# Altium footprint library board.PcbLib: 15 footprints
Each footprint in its own frame and in the unit in brackets; x right, y up, seen from the top. Pads: shape width x height; smd on the part's side, far side on the other; paste and mask are expansions set on the pad; w line width, h text height; cw(c..) or ccw(c..) is an arc to the next point about the centre after c.
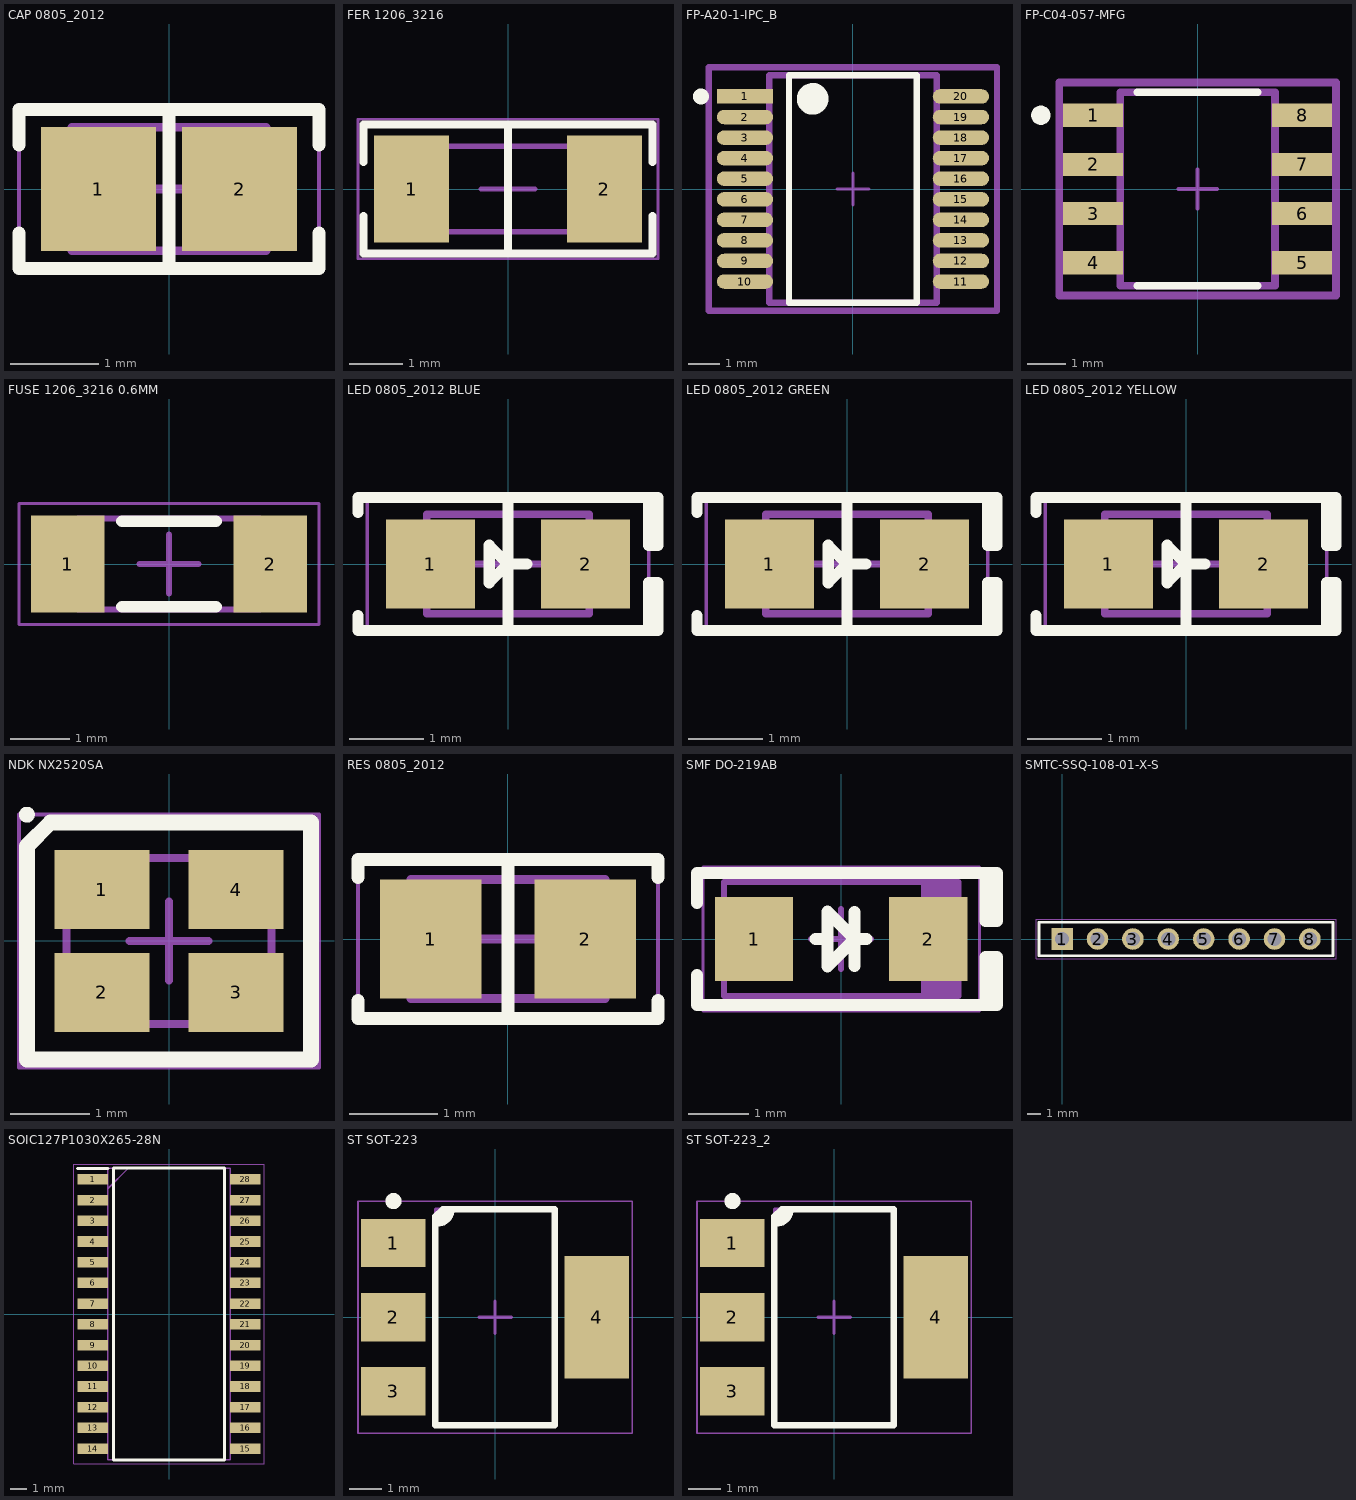
[diagram p0: the footprints below, top view; thin cyan lines are the x and y axes]

## CAP 0805_2012 [mm] "Chip Capacitor, 2-Leads, Body 2.00x1.20mm, IPC Medium Density"
height 1.15
pads (2):
  rect 1.3x1.4 smd: 1(-0.8,0) 2(0.8,0)
Top Overlay:
  lines w0.15: -1.7,-0.5 -1.7,-0.9 1.7,-0.9 1.7,-0.5 ; -1.7,0.5 -1.7,0.9 1.7,0.9 1.7,0.5 ; 0,-0.9 0,0.9
Mechanical 13:
  lines w0.1: -1.1,-0.7 1.1,-0.7 1.1,0.7 -1.1,0.7 -1.1,-0.7
Mechanical 15:
  lines w0.05: -1.7,-0.95 1.7,-0.95 1.7,0.95 -1.7,0.95 -1.7,-0.95
  lines w0.1: -0.5,0 0.5,0 ; 0,-0.5 0,0.5
3D body "0805 cap.STEP": height 1.26, standoff -0.02, extent -1,-0.637 1,0.637

## FER 1206_3216 [mm] "Chip Ferrite, 2-Leads, Body 3.20x1.60mm, IPC Medium Density"
height 1.1
pads (2):
  rect 1.4x2 smd: 1(-1.8,0) 2(1.8,0)
Top Overlay:
  lines w0.15: -2.7,-0.5 -2.7,-1.2 2.7,-1.2 2.7,-0.5 ; -2.7,0.5 -2.7,1.2 2.7,1.2 2.7,0.5 ; 0,-1.128 0,1.2
Mechanical 13:
  lines w0.1: -1.65,-0.8 -1.65,0.8 1.65,0.8 1.65,-0.8 -1.65,-0.8
Mechanical 15:
  lines w0.05: -2.8,-1.3 -2.8,1.3 2.8,1.3 2.8,-1.3 -2.8,-1.3
  lines w0.1: -0.5,0 0.5,0 ; 0,-0.5 0,0.5
3D body "FER 1206.step": height 1.3, standoff 0, extent -1.65,-0.85 1.65,0.85

## FP-A20-1-IPC_B [mm]
pads (20):
  rect 1.782x0.458 smd paste+0 mask+0: 1(-3.414,2.925)
  rrect100% 1.782x0.458 smd paste+0 mask+0: 2(-3.414,2.275) 3(-3.414,1.625) 4(-3.414,0.975) 5(-3.414,0.325) 6(-3.414,-0.325) 7(-3.414,-0.975) 8(-3.414,-1.625) 9(-3.414,-2.275) 10(-3.414,-2.925) 11(3.414,-2.925) 12(3.414,-2.275) 13(3.414,-1.625) 14(3.414,-0.975) 15(3.414,-0.325) 16(3.414,0.325) 17(3.414,0.975) 18(3.414,1.625) 19(3.414,2.275) 20(3.414,2.925)
Top Overlay:
  circle w0.25: c-4.805,2.925 r0.125
  circle w0.5: c-1.273,2.85 r0.25
  lines w0.2: -2.023,-3.6 -2.023,3.6 2.023,3.6 2.023,-3.6 -2.023,-3.6
Top 3D Body:
  lines w0.2: -2.645,-3.6 -2.645,3.6 2.645,3.6 2.645,-3.6 -2.645,-3.6
Top Courtyard:
  lines w0.2: -4.555,-3.85 -4.555,3.85 4.555,3.85 4.555,-3.85 -4.555,-3.85
Top Assembly:
  lines w0.2: -4.555,-3.85 -4.555,3.85 4.555,3.85 4.555,-3.85 -4.555,-3.85
  text ".Designator" at 0,0.189 h1
Top Component Center:
  lines w0.1: -0.5,0 0.5,0 ; 0,-0.5 0,0.5
3D body "IC_Maxim_Integrated_MAX31865AAP+_eec.STEP": height 0.25, standoff 0, extent -4.555,-3.85 4.555,3.85

## FP-C04-057-MFG [mm]
pads (8):
  rect 1.55x0.6 smd paste+0 mask+0: 1(-2.7,1.905) 2(-2.7,0.635) 3(-2.7,-0.635) 4(-2.7,-1.905) 5(2.7,-1.905) 6(2.7,-0.635) 7(2.7,0.635) 8(2.7,1.905)
Top Overlay:
  circle w0.25: c-4.05,1.905 r0.125
  lines w0.2: -1.55,-2.5 1.55,-2.5 ; -1.55,2.5 1.55,2.5
Top 3D Body:
  lines w0.2: -2,-2.5 -2,2.5 2,2.5 2,-2.5 -2,-2.5
Top Courtyard:
  lines w0.2: -3.575,-2.75 -3.575,2.75 3.575,2.75 3.575,-2.75 -3.575,-2.75
Top Assembly:
  lines w0.2: -3.575,-2.75 -3.575,2.75 3.575,2.75 3.575,-2.75 -3.575,-2.75
  text ".Designator" at 0,0.189 h1
Top Component Center:
  lines w0.1: -0.5,0 0.5,0 ; 0,-0.5 0,0.5
3D body "IC_Microchip_ATA6560-GAQW-N_eec.STEP": height 0.25, standoff 0, extent -3.575,-2.75 3.575,2.75

## FUSE 1206_3216 0.6MM [mm] "Chip Fuse 1.5A AC 63V DC, 2-Leads, Body 3.10x1.55mm, IPC Medium Densitym"
height 0.7
pads (2):
  rect 1.25x1.65 smd: 1(-1.725,0) 2(1.725,0)
Top Overlay:
  lines w0.2: -0.8,-0.725 0.8,-0.725 ; -0.8,0.725 0.8,0.725
Mechanical 13:
  lines w0.1: -1.55,-0.775 1.55,-0.775 1.55,0.775 -1.55,0.775 -1.55,-0.775
Mechanical 15:
  lines w0.05: -2.55,-1.025 2.55,-1.025 2.55,1.025 -2.55,1.025 -2.55,-1.025
  lines w0.1: -0.5,0 0.5,0 ; 0,-0.5 0,0.5
3D body "FUSE 1206_3216 0.6MM.step": height 0.76, standoff 0, extent -1.55,-0.775 1.55,0.775

## LED 0805_2012 BLUE [mm] "Chip Diode, 2-Leads, Body 2.00x1.25mm, IPC Medium Density"
height 0.7
pads (2):
  rect 1.2x1.2 smd: 1(-1.05,0) 2(1.05,0)
Top Overlay:
  lines w0.15: -2.032,-0.7 -2.032,-0.9 1.905,-0.9 ; -2.032,0.7 -2.032,0.9 1.905,0.9 ; 0,-0.9 0,0.9 ; 0.254,0 0,0 ; 0,0 -0.254,0.254 -0.254,-0.254 0,0 ; 1.905,-0.9 2.032,-0.9 2.032,-0.254 1.905,-0.254 1.905,-0.9 ; 1.905,0.9 2.032,0.9 2.032,0.254 1.905,0.254 1.905,0.9
Mechanical 13:
  lines w0.1: -1.1,-0.675 -1.1,0.675 1.1,0.675 1.1,-0.675 -1.1,-0.675
Mechanical 15:
  lines w0.05: -1.905,-0.95 -1.905,0.95 1.905,0.95 1.905,-0.95 -1.905,-0.95
  lines w0.1: -0.5,0 0.5,0 ; 0,-0.5 0,0.5
3D body "LED 0805 Lens BLUE.STEP": height 0.9, standoff 0.3, extent -0.65,-0.625 0.65,0.625
3D body "LED 0805 Base BLUE.STEP": height 0.4, standoff 0, extent -1,-0.625 1,0.625

## LED 0805_2012 GREEN [mm] "Chip Diode, 2-Leads, Body 2.00x1.25mm, IPC Medium Density"
height 0.7
pads (2):
  rect 1.2x1.2 smd: 1(-1.05,0) 2(1.05,0)
Top Overlay:
  lines w0.15: -2.032,-0.7 -2.032,-0.9 1.905,-0.9 ; -2.032,0.7 -2.032,0.9 1.905,0.9 ; 0,-0.9 0,0.9 ; 0.254,0 0,0 ; 0,0 -0.254,0.254 -0.254,-0.254 0,0 ; 1.905,-0.9 1.905,-0.254 2.032,-0.254 2.032,-0.9 1.905,-0.9 ; 1.905,0.9 1.905,0.254 2.032,0.254 2.032,0.9 1.905,0.9
Mechanical 13:
  lines w0.1: -1.1,-0.675 1.1,-0.675 1.1,0.675 -1.1,0.675 -1.1,-0.675
Mechanical 15:
  lines w0.05: -1.905,-0.95 1.905,-0.95 1.905,0.95 -1.905,0.95 -1.905,-0.95
  lines w0.1: -0.5,0 0.5,0 ; 0,-0.5 0,0.5
3D body "LED 0805 Base GREEN.STEP": height 0.4, standoff 0, extent -1,-0.625 1,0.625
3D body "LED 0805 Lens GREEN.STEP": height 0.9, standoff 0.3, extent -0.65,-0.625 0.65,0.625

## LED 0805_2012 YELLOW [mm] "Chip Diode, 2-Leads, Body 2.00x1.25mm, IPC Medium Density"
height 0.7
pads (2):
  rect 1.2x1.2 smd: 1(-1.05,0) 2(1.05,0)
Top Overlay:
  lines w0.15: -2.032,-0.7 -2.032,-0.9 1.905,-0.9 ; -2.032,0.7 -2.032,0.9 1.905,0.9 ; 0,-0.9 0,0.9 ; 0.254,0 0,0 ; 0,0 -0.254,0.254 -0.254,-0.254 0,0 ; 1.905,-0.9 1.905,-0.254 2.032,-0.254 2.032,-0.9 1.905,-0.9 ; 1.905,0.9 1.905,0.254 2.032,0.254 2.032,0.9 1.905,0.9
Mechanical 13:
  lines w0.1: -1.1,-0.675 1.1,-0.675 1.1,0.675 -1.1,0.675 -1.1,-0.675
Mechanical 15:
  lines w0.05: -1.905,-0.95 1.905,-0.95 1.905,0.95 -1.905,0.95 -1.905,-0.95
  lines w0.1: -0.5,0 0.5,0 ; 0,-0.5 0,0.5
3D body "LED 0805 Base YELLOW.STEP": height 0.4, standoff 0, extent -1,-0.625 1,0.625
3D body "LED 0805 Lens YELLOW.STEP": height 0.9, standoff 0.3, extent -0.65,-0.625 0.65,0.625

## NDK NX2520SA [mm] "Crystal, 4-Leads, Body 2.00x2.50mm, Pitch 1.70mm, IPC Medium Density"
height 0.5
pads (4):
  rect 1.2x1 smd: 1(-0.85,0.65) 2(-0.85,-0.65) 3(0.85,-0.65) 4(0.85,0.65)
Top Overlay:
  circle w0.1: c-1.8,1.6 r0.05
  lines w0.2: -1.8,-1.5 1.8,-1.5 1.8,1.5 -1.5,1.5 -1.8,1.2 -1.8,-1.5
Mechanical 13:
  lines w0.1: -1.3,-1.05 -1.3,1.05 1.3,1.05 1.3,-1.05 -1.3,-1.05
Mechanical 15:
  lines w0.05: -1.9,-1.6 -1.9,1.6 1.9,1.6 1.9,-1.6 -1.9,-1.6
  lines w0.1: -0.5,0 0.5,0 ; 0,-0.5 0,0.5
3D body "NDK NX2520SA.STEP": height 0.5, standoff 0, extent -1.26,-1.01 1.26,1.01

## RES 0805_2012 [mm] "Chip Resistor, 2-Leads, Body 2.00x1.25mm, IPC Medium Density"
height 0.7
pads (2):
  rect 1.15x1.35 smd: 1(-0.875,0) 2(0.875,0)
Top Overlay:
  lines w0.15: -1.7,-0.7 -1.7,-0.9 1.7,-0.9 1.7,-0.7 ; -1.7,0.7 -1.7,0.9 1.7,0.9 1.7,0.7 ; 0,-0.9 0,0.9
Mechanical 13:
  lines w0.1: -1.1,-0.675 1.1,-0.675 1.1,0.675 -1.1,0.675 -1.1,-0.675
Mechanical 15:
  lines w0.05: -1.7,-0.95 1.7,-0.95 1.7,0.95 -1.7,0.95 -1.7,-0.95
  lines w0.1: -0.5,0 0.5,0 ; 0,-0.5 0,0.5
3D body "0805 resistor.STEP": height 0.6, standoff 0, extent -1,-0.625 1,0.625

## SMF DO-219AB [mm] "Molded Diode, 2-Leads, Body 3.90x1.90mm, IPC Medium Density"
height 1.1
pads (2):
  rect 1.3x1.4 smd: 1(-1.45,0) 2(1.45,0)
Top Overlay:
  lines w0.2: -2.4,-0.6 -2.4,-1.1 2.594,-1.1 2.594,-0.3 2.4,-0.3 2.4,-1.1 ; -2.4,0.6 -2.4,1.1 2.594,1.1 2.594,0.3 2.4,0.3 2.4,1.1 ; -0.429,-0.004 -0.229,-0.004 ; 0.225,-0.45 0.225,0.45 ; 0.425,0 0.225,0 ; 0.225,0 -0.229,0.454 -0.229,-0.454 0.225,0
Mechanical 13:
  rectangle: 1.331,-0.95 1.95,0.95
  lines w0.1: -1.95,-0.95 1.95,-0.95 1.95,0.95 -1.95,0.95 -1.95,-0.95
Mechanical 15:
  lines w0.05: -2.3,-1.2 -2.3,1.2 2.3,1.2 2.3,-1.2 -2.3,-1.2
  lines w0.1: -0.5,0 0.5,0 ; 0,-0.5 0,0.5
3D body "Vishay - SMF.step": height 1.18, standoff 0, extent -1.5,-0.898 1.5,0.898

## SMTC-SSQ-108-01-X-S [mm] "SQ Post Socket, 1x8 Pins, Vertical, 2.54mm Pitch, Female"
height 8.51
pads (8):
  rect 1.55x1.55 hole 1.02: 1(0,0)
  round 1.55 hole 1.02: 2(2.54,0) 3(5.08,0) 4(7.62,0) 5(10.16,0) 6(12.7,0) 7(15.24,0) 8(17.78,0)
Top Overlay:
  lines w0.2: -1.65,-1.205 -1.65,1.205 19.43,1.205 19.43,-1.205 -1.65,-1.205
Mechanical 13:
  lines w0.1: -1.65,-1.205 -1.65,1.205 19.43,1.205 19.43,-1.205 -1.65,-1.205
Mechanical 15:
  lines w0.05: -1.875,-1.43 19.655,-1.43 19.655,1.43 -1.875,1.43 -1.875,-1.43
3D body "SSQ-108-01-X-S.step": height 8.51, standoff -2.64, extent -1.524,-1.206 19.304,1.207

## SOIC127P1030X265-28N [mm]
pads (28):
  rect 1.85x0.65 smd: 1(-4.675,8.255) 2(-4.675,6.985) 3(-4.675,5.715) 4(-4.675,4.445) 5(-4.675,3.175) 6(-4.675,1.905) 7(-4.675,0.635) 8(-4.675,-0.635) 9(-4.675,-1.905) 10(-4.675,-3.175) 11(-4.675,-4.445) 12(-4.675,-5.715) 13(-4.675,-6.985) 14(-4.675,-8.255) 15(4.675,-8.255) 16(4.675,-6.985) 17(4.675,-5.715) 18(4.675,-4.445) 19(4.675,-3.175) 20(4.675,-1.905) 21(4.675,-0.635) 22(4.675,0.635) 23(4.675,1.905) 24(4.675,3.175) 25(4.675,4.445) 26(4.675,5.715) 27(4.675,6.985) 28(4.675,8.255)
Top Overlay:
  lines w0.2: -5.6,8.93 -3.75,8.93 ; -3.4,-8.95 3.4,-8.95 3.4,8.95 -3.4,8.95 -3.4,-8.95
Mechanical 13:
  lines w0.1: -3.75,7.68 -2.48,8.95 ; -3.75,-8.95 3.75,-8.95 3.75,8.95 -3.75,8.95 -3.75,-8.95
Mechanical 15:
  lines w0.05: -5.85,-9.2 5.85,-9.2 5.85,9.2 -5.85,9.2 -5.85,-9.2
3D body "AVR128DB28-E_SO.stp": height 2.65, standoff 0, extent -5.15,-8.95 5.15,8.95

## ST SOT-223 [mm] "SOT223, 4-Leads, Body 6.50x7.00mm (avg), Pitch 2.30mm, IPC Medium Density"
height 1.8
pads (4):
  rect 2x1.5 smd: 1(-3.15,2.3) 2(-3.15,0) 3(-3.15,-2.3)
  rect 2x3.8 smd: 4(3.15,0)
Top Overlay:
  circle w0.25: c-3.15,3.6 r0.125
  region: -1.65,3.275 -1.35,3.35 -1.35,3.2 -1.65,2.9 -1.85,2.9
  lines w0.2: -1.85,2.9 -1.8,2.9 ccw(c-1.8,3.35) -1.35,3.35 ; -1.85,-3.35 1.85,-3.35 1.85,3.35 -1.625,3.35 -1.85,3.125 -1.85,-3.35
Mechanical 13:
  lines w0.1: -1.85,-3.35 -1.85,3.35 1.85,3.35 1.85,-3.35 -1.85,-3.35
Mechanical 15:
  lines w0.05: -4.25,-3.6 -4.25,3.6 4.25,3.6 4.25,-3.6 -4.25,-3.6
  lines w0.1: -0.5,0 0.5,0 ; 0,-0.5 0,0.5
3D body "SOT-223.STEP": height 1.8, standoff 0, extent -3.516,-3.25 3.5,3.25

## ST SOT-223_2 [mm]
pads (4):
  rect 2x1.5 smd: 1(-3.15,2.3) 2(-3.15,0) 3(-3.15,-2.3)
  rect 2x3.8 smd: 4(3.15,0)
Top Overlay:
  circle w0.25: c-3.15,3.6 r0.125
  region: -1.65,3.275 -1.35,3.35 -1.35,3.2 -1.65,2.9 -1.85,2.9
  lines w0.2: -1.85,2.9 -1.8,2.9 ccw(c-1.8,3.35) -1.35,3.35 ; -1.85,-3.35 -1.85,3.125 -1.625,3.35 1.85,3.35 1.85,-3.35 -1.85,-3.35
Mechanical 13:
  lines w0.1: -1.85,-3.35 1.85,-3.35 1.85,3.35 -1.85,3.35 -1.85,-3.35
Mechanical 15:
  lines w0.05: -4.25,-3.6 4.25,-3.6 4.25,3.6 -4.25,3.6 -4.25,-3.6
  lines w0.1: -0.5,0 0.5,0 ; 0,-0.5 0,0.5
3D body "SOT-223.STEP": height 1.8, standoff 0, extent -3.516,-3.25 3.5,3.25